# EAGLE library part MCP6S21 (library IC)
Microchip Single Ended, Rail-to-Rail, Low Gain PGA, single input
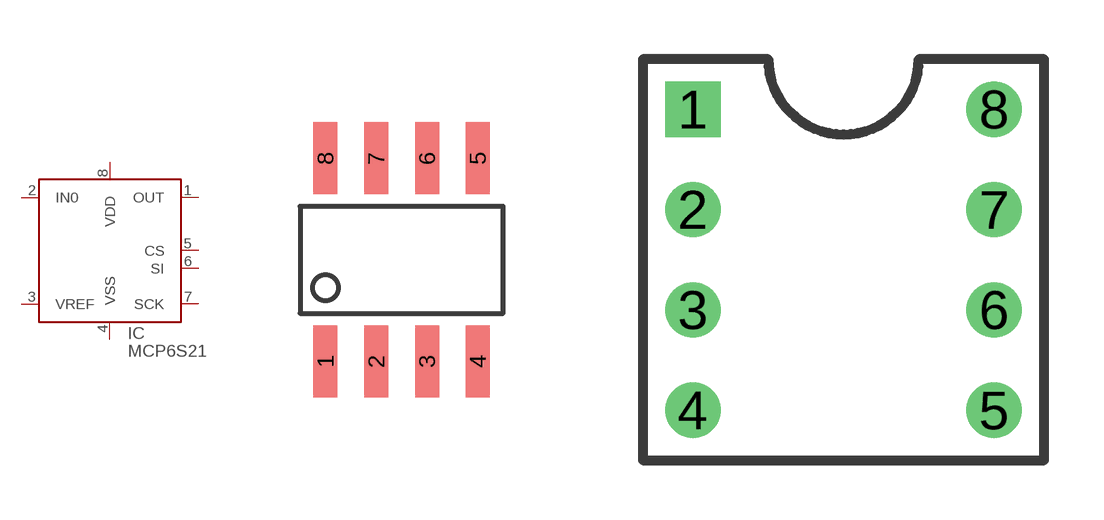
[diagram p65: symbol with the pads of SOIC8; footprints SOIC8, DIP-8C]

Designator prefix IC

## MCP6S21SL  [SOIC8]
1  OUT
2  IN0
3  VREF
4  VSS
5  CS
6  SI
7  SCK
8  VDD

## MCP6S21P  [DIP-8C]
Pads as for SOIC8

## Footprint SOIC8 (pad centres in mm)
8 pin SOIC 150-mil package
smd 0.6 x 1.8: 1 -1.905,-2.54; 2 -0.635,-2.54; 3 0.635,-2.54; 4 1.905,-2.54; 5 1.905,2.54; 6 0.635,2.54; 7 -0.635,2.54; 8 -1.905,2.54

## Footprint DIP-8C (pad centres in mm)
drill 0.889 square: 1 -3.81,3.81
drill 0.889 round: 2 -3.81,1.27; 3 -3.81,-1.27; 4 -3.81,-3.81; 5 3.81,-3.81; 6 3.81,-1.27; 7 3.81,1.27; 8 3.81,3.81